# EAGLE library part BA5204F (library Audio-Power-amlifier V.2.0)
3V / 35mW dual power amplifier
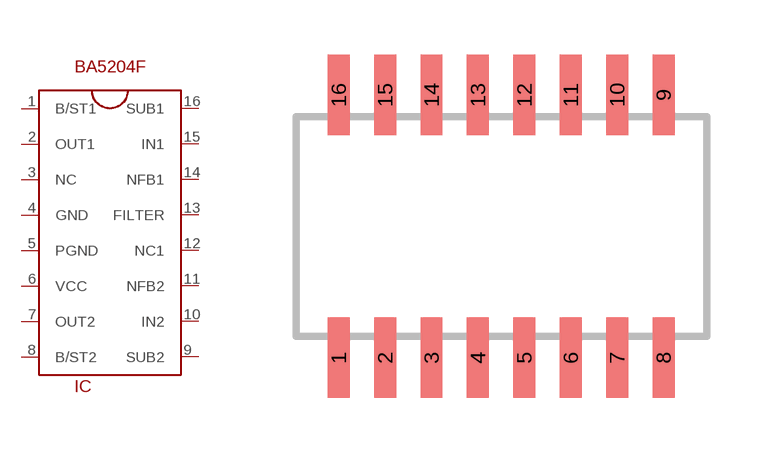
[diagram p38: symbol with the pads of SOP16; footprint SOP16]

Designator prefix IC

## BA5204F  [SOP16]
1  B/ST1
2  OUT1  out
3  NC  nc
4  GND  pwr
5  PGND  pwr
6  VCC  pwr
7  OUT2  out
8  B/ST2
9  SUB2
10  IN2  in
11  NFB2
12  NC1  nc
13  FILTER
14  NFB1
15  IN1  in
16  SUB1

## Footprint SOP16 (pad centres in mm)
smd 0.6 x 2.2: 1 -4.445,-3.6; 2 -3.175,-3.6; 3 -1.905,-3.6; 4 -0.635,-3.6; 5 0.635,-3.6; 6 1.905,-3.6; 7 3.175,-3.6; 8 4.445,-3.6; 9 4.445,3.6; 10 3.175,3.6; 11 1.905,3.6; 12 0.635,3.6; 13 -0.635,3.6; 14 -1.905,3.6; 15 -3.175,3.6; 16 -4.445,3.6